# Altium schematic symbol library Schlib_Richtek.SchLib: 5 symbols
Pins are listed as number, name and electrical type; pins without a type are passive.

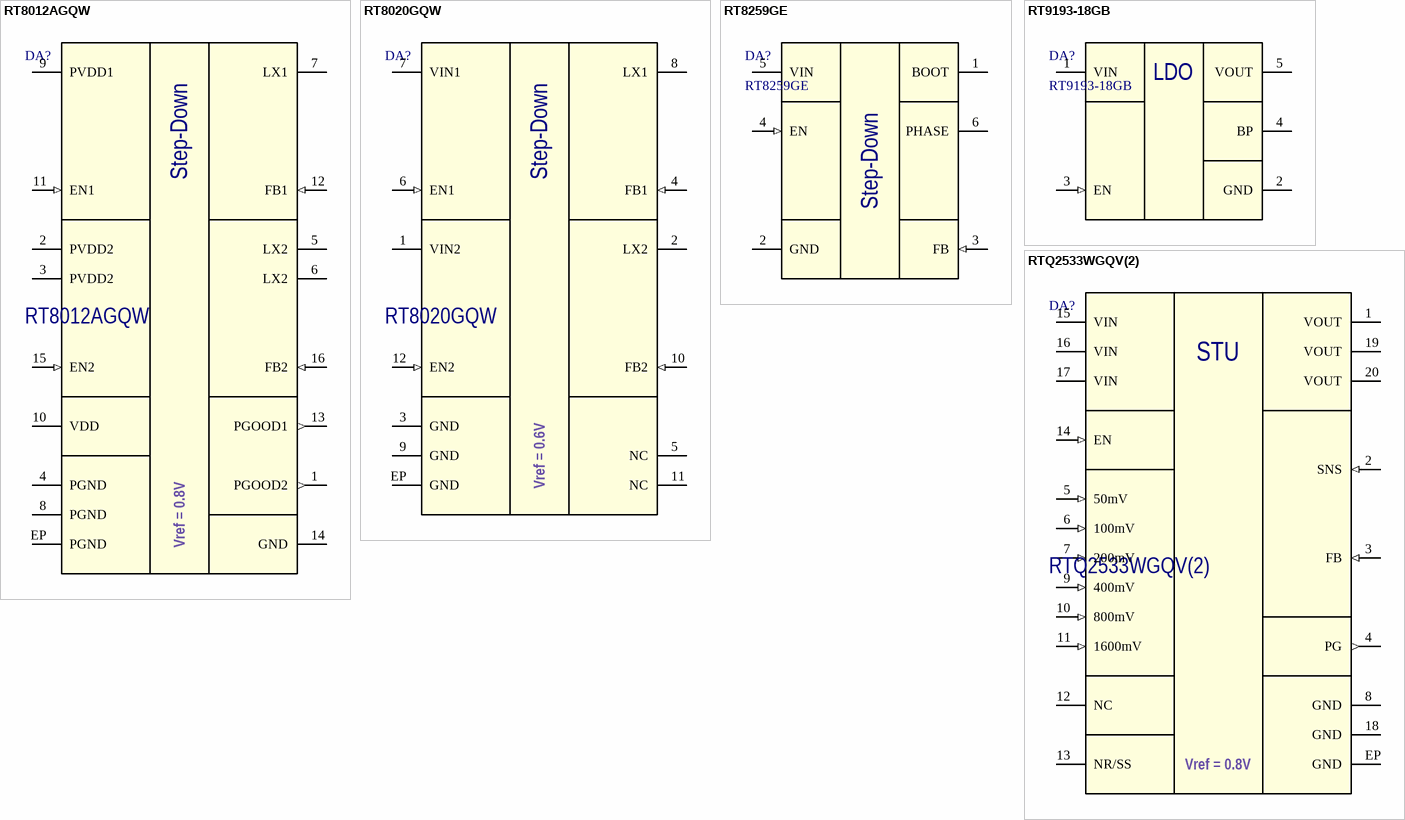
[diagram p0: symbols RT8012AGQW to RTQ2533WGQV(2)]

## RT8012AGQW
designator DA?
Dual 1A/1.5A-1.2MHz Synchronous Step-Down Converters; Manufacturer: Richtek USA Inc.; Part Number: RT8012AGQW; Package: QFN-16WL
footprint QFN16W_RT8012A (W-Type 16L QFN 4x4 Package, pitch 0.65mm)
pins: 1 PGOOD2 (out), 2 PVDD2 (power), 3 PVDD2 (power), 4 PGND (power), 5 LX2, 6 LX2, 7 LX1, 8 PGND (power), 9 PVDD1 (power), 10 VDD (power), 11 EN1 (in), 12 FB1 (in), 13 PGOOD1 (out), 14 GND (power), 15 EN2 (in), 16 FB2 (in), EP PGND (power)
text: Step-Down; Vref = 0.8V

## RT8020GQW
designator DA?
Dual High-Efficiency PWM Step-Down DC/DC Converter 1.5MHz 2x1A; Manufacturer: Richtek USA Inc.; Part Number: RT8020GQW; Package: WDFN-12L
footprint WDFN-12L (DFN-12 package with 0.5mm pitch 3x4mm)
pins: 1 VIN2 (power), 2 LX2, 3 GND (power), 4 FB1 (in), 5 NC (hiz), 6 EN1 (in), 7 VIN1 (power), 8 LX1, 9 GND (power), 10 FB2 (in), 11 NC (hiz), 12 EN2 (in), EP GND (power)
text: Step-Down; Vref = 0.6V

## RT8259GE
designator DA?
60 V 0.6 A Buck Regulators With High Efficiency ECO  Mode; Manufacturer: Richtek USA Inc.; Part Number: RT8259GE; Package: SOT23-6
footprint SOT23-6 (SOT23, 6-Leads, Body 2.90x2.80mm, Pitch 0.95mm, IPC Medium Density)
pins: 1 BOOT (power), 2 GND (power), 3 FB (in), 4 EN (in), 5 VIN (power), 6 PHASE (power)
text: Step-Down

## RT9193-18GB
designator DA?
300mA, Ultra-Low Noise, Ultra-Fast CMOS LDO Regulator; Manufacturer: Richtek USA Inc.; Part Number: RT9193-18GB; Package: SOT23-5
footprint SOT23-5 (SOT23, 6-Leads, Body 2.90x2.80mm, Pitch 0.95mm, IPC Medium Density)
pins: 1 VIN (power), 2 GND (power), 3 EN (in), 4 BP, 5 VOUT (power)
text: LDO

## RTQ2533WGQV(2)
designator DA?
Low-Noise LDO Voltage Regulator; Manufacturer: Richtek USA Inc.; Part Number: RTQ2533WGQV(2); Package: VQFN-20 (3.5mm x 3.5mm)
footprint VQFN-20 (VQFN-20 package 3.5 x 3.5mm with 0.5mm pitch)
pins: 1 VOUT (power), 2 SNS (in), 3 FB (in), 4 PG (out), 5 50mV (in), 6 100mV (in), 7 200mV (in), 8 GND (power), 9 400mV (in), 10 800mV (in), 11 1600mV (in), 12 NC (hiz), 13 NR/SS, 14 EN (in), 15 VIN (power), 16 VIN (power), 17 VIN (power), 18 GND (power), 19 VOUT (power), 20 VOUT (power), EP GND (power)
text: STU; Vref = 0.8V